# Altium schematic symbol library BD9C501EFJ-E2.SchLib: 1 symbol
Pins are listed as number, name and electrical type; pins without a type are passive.

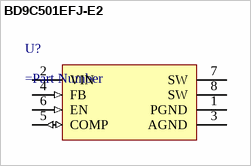
[diagram p0: symbol BD9C501EFJ-E2]

## BD9C501EFJ-E2
designator U?
=Description
pins: 1 PGND (power), 2 VIN (power), 3 AGND (power), 4 FB (in), 5 COMP (io), 6 EN (in), 7 SW, 8 SW